# EAGLE library part AWHW40 (library J-IDC2.54mm)
40POS 2.52MM pitch Boxheader for IDC socktest http://assmann.us/
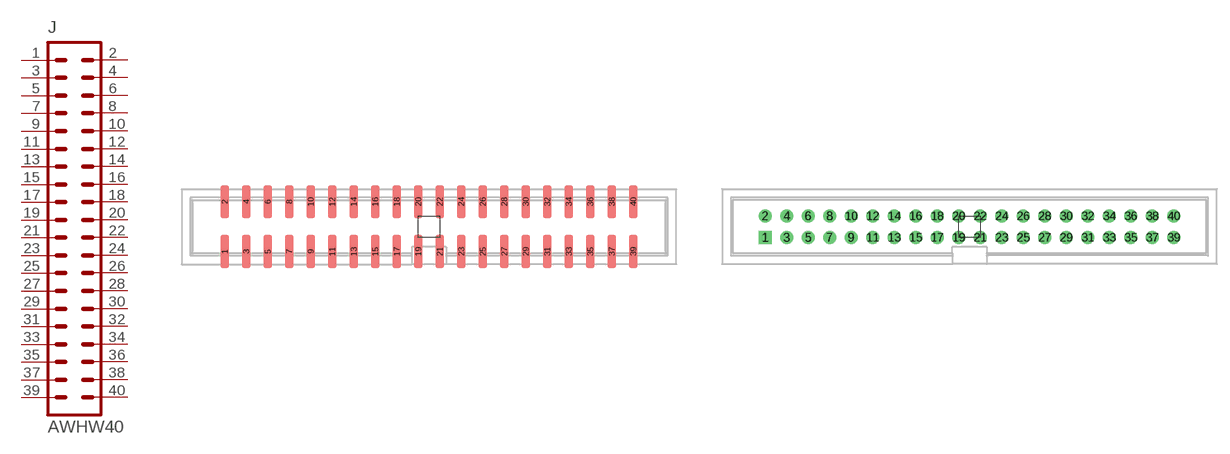
[diagram p6: symbol with the pads of 40-G-SMD-R; footprints 40-G-SMD-R, 40G-0202-T-R]

Designator prefix J

## AWHW40-G-SMD-R  [40-G-SMD-R]
1  1  pas
2  2  pas
3  3  pas
4  4  pas
5  5  pas
6  6  pas
7  7  pas
8  8  pas
9  9  pas
10  10  pas
11  11  pas
12  12  pas
13  13  pas
14  14  pas
15  15  pas
16  16  pas
17  17  pas
18  18  pas
19  19  pas
20  20  pas
21  21  pas
22  22  pas
23  23  pas
24  24  pas
25  25  pas
26  26  pas
27  27  pas
28  28  pas
29  29  pas
30  30  pas
31  31  pas
32  32  pas
33  33  pas
34  34  pas
35  35  pas
36  36  pas
37  37  pas
38  38  pas
39  39  pas
40  40  pas

## AWHW40G-0202-T-R  [40G-0202-T-R]
Pads as for 40-G-SMD-R

## AWHW40A-0202-T-R  [40A-0202-T-R]
Pads as for 40-G-SMD-R

## Footprint 40-G-SMD-R (pad centres in mm)
2.54MM Pitch, 3.9MM X1.02MM PAD 50% round, +/- 2.94MM offset AWHW40-G-SMD-R
smd 1.02 x 3.9: 1 -24.13,-2.94; 2 -24.13,2.94; 3 -21.59,-2.94; 4 -21.59,2.94; 5 -19.05,-2.94; 6 -19.05,2.94; 7 -16.51,-2.94; 8 -16.51,2.94; 9 -13.97,-2.94; 10 -13.97,2.94; 11 -11.43,-2.94; 12 -11.43,2.94; 13 -8.89,-2.94; 14 -8.89,2.94; 15 -6.35,-2.94; 16 -6.35,2.94; 17 -3.81,-2.94; 18 -3.81,2.94; 19 -1.27,-2.94; 20 -1.27,2.94; 21 1.27,-2.94; 22 1.27,2.94; 23 3.81,-2.94; 24 3.81,2.94; 25 6.35,-2.94; 26 6.35,2.94; 27 8.89,-2.94; 28 8.89,2.94; 29 11.43,-2.94; 30 11.43,2.94; 31 13.97,-2.94; 32 13.97,2.94; 33 16.51,-2.94; 34 16.51,2.94; 35 19.05,-2.94; 36 19.05,2.94; 37 21.59,-2.94; 38 21.59,2.94; 39 24.13,-2.94; 40 24.13,2.94

## Footprint 40G-0202-T-R (pad centres in mm)
2.54MM Pitch, 1.016MM drill, diameter is auto (uses DRC restring) AWHW40G-0202-T-R
drill 1.016 square: 1 -24.13,-1.27
drill 1.016: 2 -24.13,1.27; 3 -21.59,-1.27; 4 -21.59,1.27; 5 -19.05,-1.27; 6 -19.05,1.27; 7 -16.51,-1.27; 8 -16.51,1.27; 9 -13.97,-1.27; 10 -13.97,1.27; 11 -11.43,-1.27; 12 -11.43,1.27; 13 -8.89,-1.27; 14 -8.89,1.27; 15 -6.35,-1.27; 16 -6.35,1.27; 17 -3.81,-1.27; 18 -3.81,1.27; 19 -1.27,-1.27; 20 -1.27,1.27; 21 1.27,-1.27; 22 1.27,1.27; 23 3.81,-1.27; 24 3.81,1.27; 25 6.35,-1.27; 26 6.35,1.27; 27 8.89,-1.27; 28 8.89,1.27; 29 11.43,-1.27; 30 11.43,1.27; 31 13.97,-1.27; 32 13.97,1.27; 33 16.51,-1.27; 34 16.51,1.27; 35 19.05,-1.27; 36 19.05,1.27; 37 21.59,-1.27; 38 21.59,1.27; 39 24.13,-1.27; 40 24.13,1.27

## Footprint 40A-0202-T-R (pad centres in mm)
2.54MM Pitch, 1.016MM drill, diameter is auto (uses DRC restring) AWHW40A-0202-T-R
drill 1.016 square: 1 -24.13,-1.27
drill 1.016: 2 -24.13,1.27; 3 -21.59,-1.27; 4 -21.59,1.27; 5 -19.05,-1.27; 6 -19.05,1.27; 7 -16.51,-1.27; 8 -16.51,1.27; 9 -13.97,-1.27; 10 -13.97,1.27; 11 -11.43,-1.27; 12 -11.43,1.27; 13 -8.89,-1.27; 14 -8.89,1.27; 15 -6.35,-1.27; 16 -6.35,1.27; 17 -3.81,-1.27; 18 -3.81,1.27; 19 -1.27,-1.27; 20 -1.27,1.27; 21 1.27,-1.27; 22 1.27,1.27; 23 3.81,-1.27; 24 3.81,1.27; 25 6.35,-1.27; 26 6.35,1.27; 27 8.89,-1.27; 28 8.89,1.27; 29 11.43,-1.27; 30 11.43,1.27; 31 13.97,-1.27; 32 13.97,1.27; 33 16.51,-1.27; 34 16.51,1.27; 35 19.05,-1.27; 36 19.05,1.27; 37 21.59,-1.27; 38 21.59,1.27; 39 24.13,-1.27; 40 24.13,1.27